# EAGLE library part ELGYRO_L3GD20H (library ELCano_Footprints)
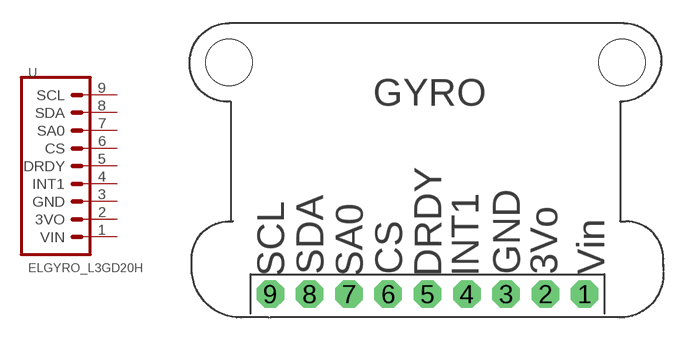
[diagram p2: symbol with the pads of ELGYRO; footprint ELGYRO]

Designator prefix -

## ELGYRO_L3GD20H  [ELGYRO]
1  VIN  pas
2  3VO  pas
3  GND  pas
4  INT1  pas
5  DRDY  pas
6  CS  pas
7  SA0  pas
8  SDA  pas
9  SCL  pas

## Footprint ELGYRO (pad centres in mm)
drill 1.016 pad 1.778 octagon: 1 21.59,2.54; 2 19.05,2.54; 3 16.51,2.54; 4 13.97,2.54; 5 11.43,2.54; 6 8.89,2.54; 7 6.35,2.54; 8 3.81,2.54; 9 1.27,2.54
hole 3 at -1.397,17.526
hole 3 at 24.003,17.526